# EAGLE library part ERM2004-2 (library atividade4)
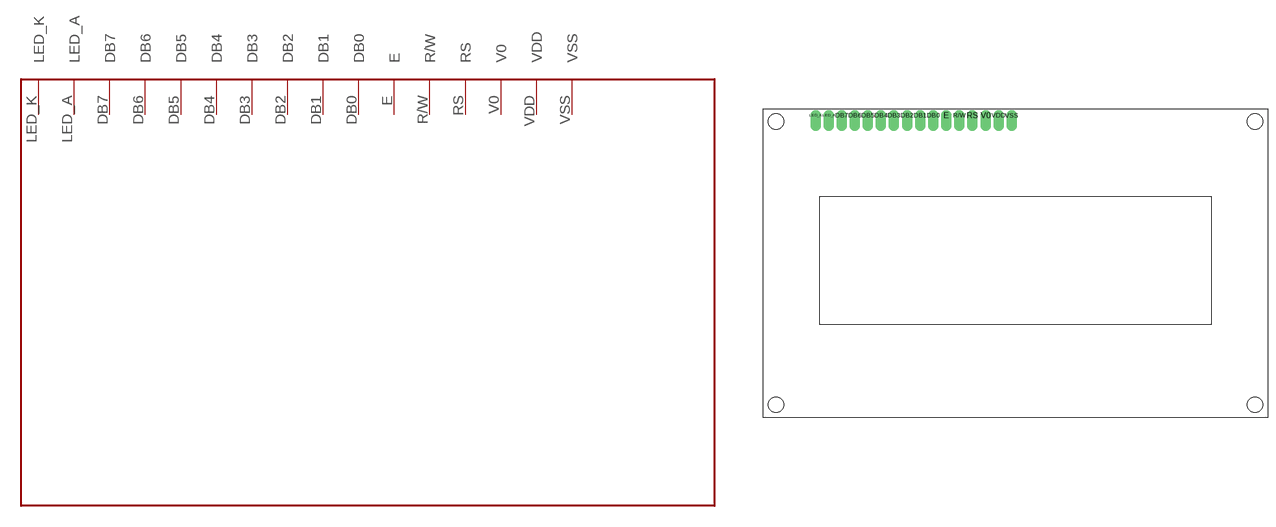
[diagram p0: symbol with the pads of ERM2004-2PACKAGE; footprint ERM2004-2PACKAGE]

Designator prefix -

## ERM2004-2  [ERM2004-2PACKAGE]
DB0  DB0
DB1  DB1
DB2  DB2
DB3  DB3
DB4  DB4
DB5  DB5
DB6  DB6
DB7  DB7
E  E
LED_A  LED_A  pwr
LED_K  LED_K  pwr
R/W  R/W
RS  RS
V0  V0  pwr
VDD  VDD  pwr
VSS  VSS  pwr

## Footprint ERM2004-2PACKAGE (pad centres in mm)
drill 1 pad 2 offset: DB0 -16.51,29.21; DB1 -19.05,29.21; DB2 -21.59,29.21; DB3 -24.13,29.21; DB4 -26.67,29.21; DB5 -29.21,29.21; DB6 -31.75,29.21; DB7 -34.29,29.21; E -13.97,29.21; LED_A -36.83,29.21; LED_K -39.37,29.21; R/W -11.43,29.21; RS -8.89,29.21; V0 -6.35,29.21; VDD -3.81,29.21; VSS -1.27,29.17
hole 3 at -47.03,27.98
hole 3 at -47.03,-27.02
hole 3 at 45.97,27.98
hole 3 at 45.97,-27.02